# EAGLE library part MCP4726-SOT (library MCP4726)
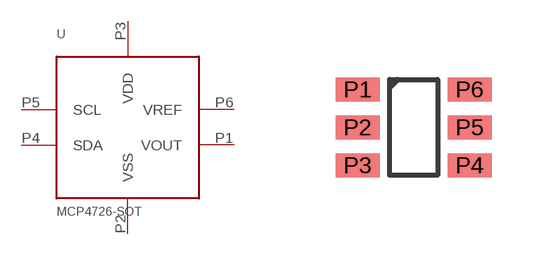
[diagram p0: symbol with the pads of SOT-23-6; footprint SOT-23-6]

Designator prefix -

## MCP4726-SOT  [SOT-23-6]
P1  VOUT
P2  VSS
P3  VDD
P4  SDA
P5  SCL
P6  VREF

## Footprint SOT-23-6 (pad centres in mm)
smd 1.1 x 0.6: P1 -1.4,0.95; P2 -1.4,0; P3 -1.4,-0.95; P4 1.4,-0.95; P5 1.4,0; P6 1.4,0.95